# Altium footprint library Ai-WB2-01S.PcbLib: 1 footprints
Each footprint in its own frame and in the unit in brackets; x right, y up, seen from the top. Pads: shape width x height; smd on the part's side, far side on the other; paste and mask are expansions set on the pad; w line width, h text height; cw(c..) or ccw(c..) is an arc to the next point about the centre after c.
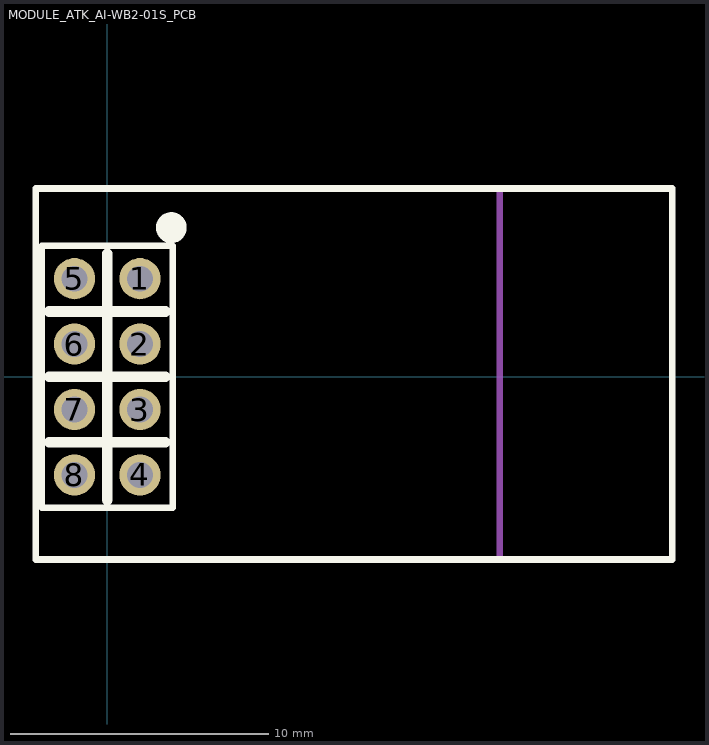
[diagram p0: the footprint, top view; thin cyan lines are the x and y axes]

## MODULE_ATK_AI-WB2-01S_PCB [mm]
pads (8):
  round 1.6 hole 1: 1(1.27,3.81) 2(1.27,1.27) 3(1.27,-1.27) 4(1.27,-3.81) 5(-1.27,3.81) 6(-1.27,1.27) 7(-1.27,-1.27) 8(-1.27,-3.81)
Top Overlay:
  circle w0.8: c2.489,5.791 r0.198
  lines w0.254: -2.77,-7.09 21.93,-7.09 21.93,7.31 -2.77,7.31 -2.77,-7.09 ; -2.54,-5.08 2.54,-5.08 2.54,5.08 -2.54,5.08 -2.54,-5.08
  lines w0.419: -2.25,-2.54 2.25,-2.54 ; -2.25,0 2.25,0 ; -2.25,2.54 2.25,2.54 ; 0,-4.78 0,4.78
Mechanical117:
  lines w0.254: 15.23,-7.09 15.23,7.31